# EAGLE library part SRBV160803 (library switches)
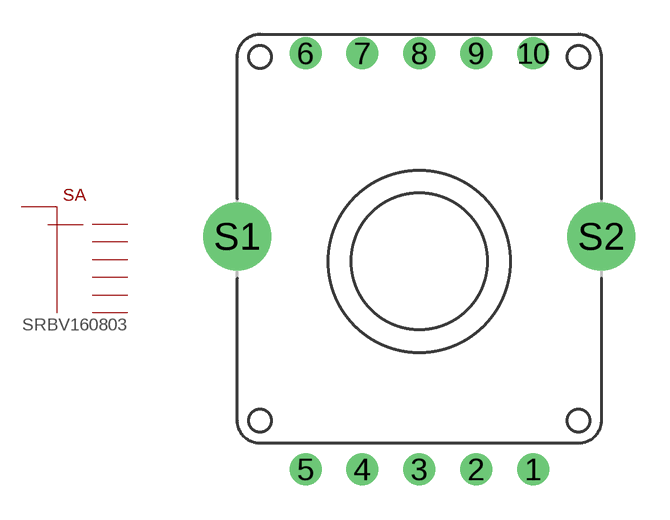
[diagram p9: symbol with the pads of SRBV; footprint SRBV]

Designator prefix SA

## SRBV160803 (MOUSER: 688-SRBV160803)  [SRBV]
1  CM  pas
2  1  pas
3  2  pas
4  3  pas
5  4  pas
6  5  pas
7  6  pas
10  CM  pas

## Footprint SRBV (pad centres in mm)
drill 0.9: 1 5,-9.15; 2 2.5,-9.15; 3 0,-9.15; 4 -2.5,-9.15; 5 -5,-9.15; 6 -5,9.15; 7 -2.5,9.15; 8 0,9.15; 9 2.5,9.15; 10 5,9.15
drill 2: S1 -8,1.1; S2 8,1.1